# Altium footprint library Resistors SMD.PcbLib: 11 footprints
Each footprint in its own frame and in the unit in brackets; x right, y up, seen from the top. Pads: shape width x height; smd on the part's side, far side on the other; paste and mask are expansions set on the pad; w line width, h text height; cw(c..) or ccw(c..) is an arc to the next point about the centre after c.
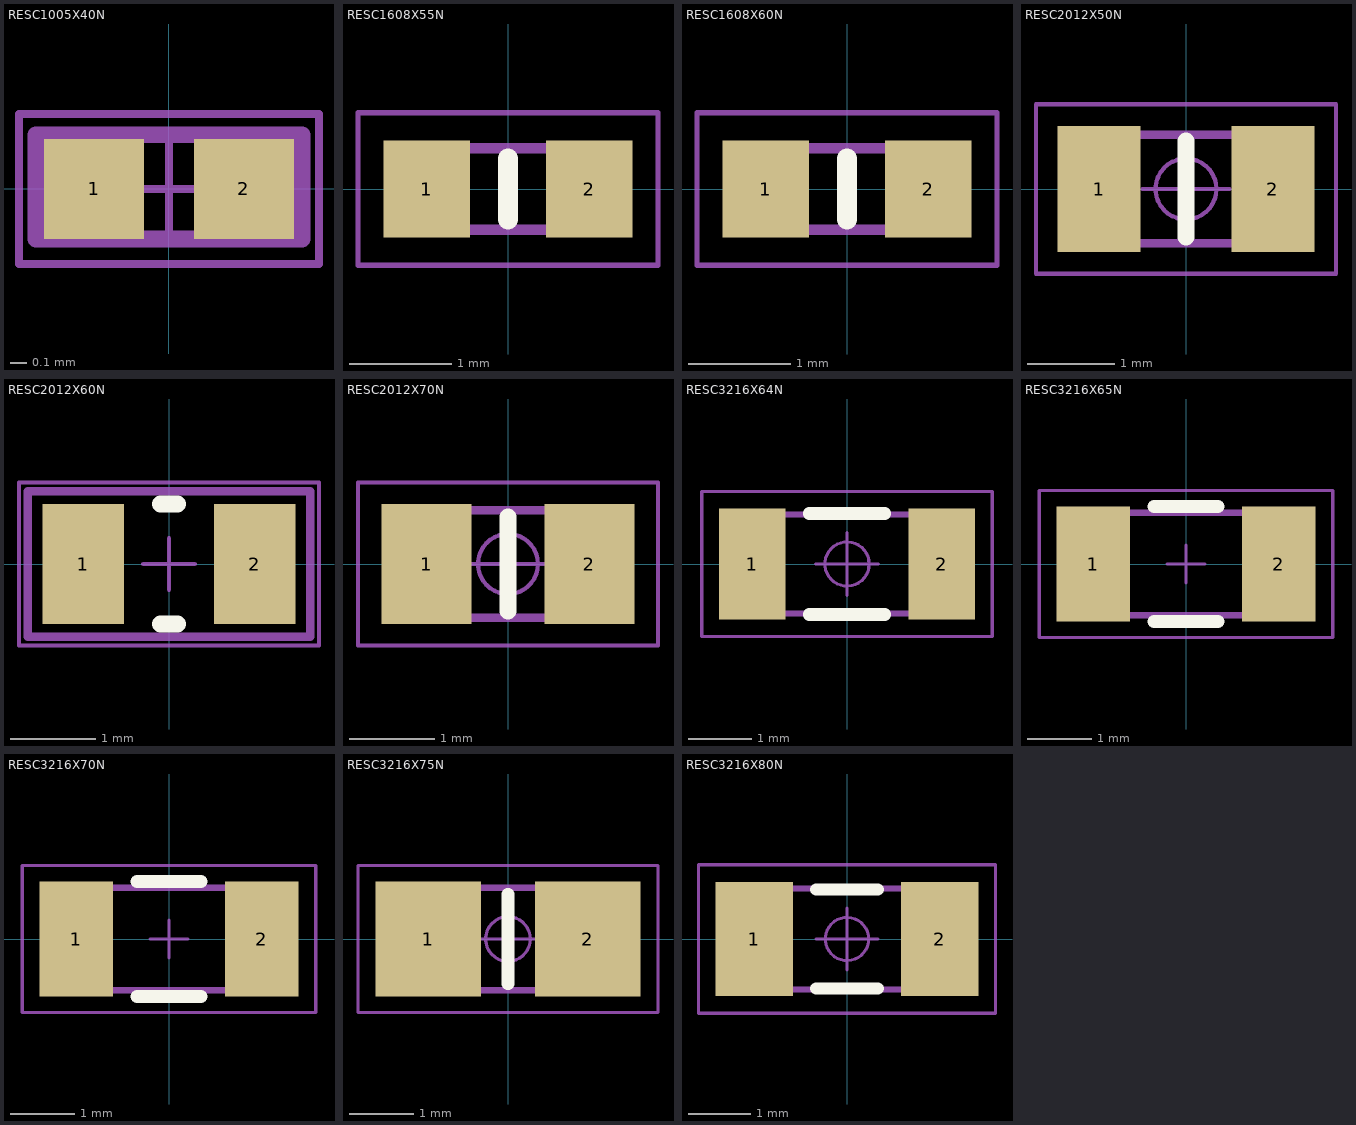
[diagram p0: the footprints below, top view; thin cyan lines are the x and y axes]

## RESC1005X40N [mm] "Chip Resistor, EIA 0402, Metric 1005, Body 1.0x0.5mm, IPC Medium Density"
height 0.4
pads (2):
  rect 0.6x0.6 smd: 1(-0.45,0) 2(0.45,0)
Mechanical 14:
  lines w0.1: -0.8,-0.3 -0.8,0.325 0.8,0.325 0.8,-0.3 -0.8,-0.3
Mechanical 15:
  lines w0.05: -0.3,0 0.3,0 ; 0,-0.3 0,0.3 ; -0.9,-0.45 -0.9,0.45 0.9,0.45 0.9,-0.45 -0.9,-0.45
3D body "RESC1005X40N.stp": height 0.4, standoff 0, extent -0.525,-0.275 0.525,0.275

## RESC1608X55N [mm]
pads (2):
  rect 0.85x0.95 smd: 1(-0.8,0) 2(0.8,0)
Top Overlay:
  lines w0.2: 0,-0.3 0,0.3
Mechanical 13:
  lines w0.1: -0.8,-0.4 0.8,-0.4 0.8,0.4 -0.8,0.4 -0.8,-0.4
Mechanical 15:
  lines w0.05: -1.475,-0.75 1.475,-0.75 1.475,0.75 -1.475,0.75 -1.475,-0.75
3D body "MCMR06X4700FTL.stp": height 0.55, standoff 0, extent -0.8,-0.4 0.8,0.4

## RESC1608X60N [mm]
pads (2):
  rect 0.85x0.95 smd: 1(-0.8,0) 2(0.8,0)
Top Overlay:
  lines w0.2: 0,-0.3 0,0.3
Mechanical 13:
  lines w0.1: -0.8,-0.4 0.8,-0.4 0.8,0.4 -0.8,0.4 -0.8,-0.4
Mechanical 15:
  lines w0.05: -1.475,-0.75 1.475,-0.75 1.475,0.75 -1.475,0.75 -1.475,-0.75
3D body "MCSR06X75R0FTL.stp": height 0.6, standoff 0, extent -0.8,-0.4 0.8,0.4

## RESC2012X50N [mm] "Chip Resistor, EIA 0805, Metric 2012, Body 2.0x1.25mm, IPC Medium Density"
height 0.5
pads (2):
  rect 0.95x1.45 smd: 1(-1,0) 2(1,0)
Top Overlay:
  lines w0.2: 0,-0.55 0,0.55
Mechanical 14:
  lines w0.1: -1.025,-0.625 -1.025,0.625 1.025,0.625 1.025,-0.625 -1.025,-0.625
Mechanical 15:
  circle w0.05: c0,0 r0.35
  lines w0.05: -0.5,0 0.5,0 ; 0,-0.5 0,0.5 ; -1.725,-0.975 -1.725,0.975 1.725,0.975 1.725,-0.975 -1.725,-0.975
3D body "RESC2012X50N.stp": height 0.5, standoff 0, extent -1.1,-0.675 1.1,0.675

## RESC2012X60N [mm] "Chip Resistor, EIA 0805, Metric 2012, Body 2.0x1.2mm, IPC Medium Density"
height 0.6
pads (2):
  rect 0.95x1.4 smd: 1(-1,0) 2(1,0)
Top Overlay:
  lines w0.2: -0.1,-0.7 0.1,-0.7 ; -0.1,0.7 0.1,0.7
Mechanical 14:
  lines w0.1: -1.65,-0.85 1.65,-0.85 1.65,0.85 -1.65,0.85 -1.65,-0.85
Mechanical 15:
  lines w0.05: -0.3,0 0.3,0 ; 0,-0.3 0,0.3 ; -1.75,-0.95 -1.75,0.95 1.75,0.95 1.75,-0.95 -1.75,-0.95
3D body "RESC2012X60N.stp": height 0.6, standoff 0, extent -1.1,-0.675 1.1,0.675

## RESC2012X70N [mm] "Chip Resistor, EIA 0805, Metric 2012, Body 2.0x1.25mm, IPC Medium Density"
height 0.7
pads (2):
  rect 1.05x1.4 smd: 1(-0.95,0) 2(0.95,0)
Top Overlay:
  lines w0.2: 0,-0.55 0,0.55
Mechanical 14:
  lines w0.1: -1,-0.625 -1,0.625 1,0.625 1,-0.625 -1,-0.625
Mechanical 15:
  circle w0.05: c0,0 r0.35
  lines w0.05: -0.5,0 0.5,0 ; 0,-0.5 0,0.5 ; -1.75,-0.95 -1.75,0.95 1.75,0.95 1.75,-0.95 -1.75,-0.95
3D body "RESC2012X70N.stp": height 0.7, standoff 0, extent -1.1,-0.675 1.1,0.675

## RESC3216X64N [mm] "Chip Resistor, EIA 1206, Metric 3216, Body 3.2x1.6mm, IPC Medium Density"
height 0.64
pads (2):
  rect 1.05x1.75 smd: 1(-1.5,0) 2(1.5,0)
Top Overlay:
  lines w0.2: -0.6,-0.8 0.6,-0.8 ; -0.6,0.8 0.6,0.8
Mechanical 14:
  lines w0.1: -1.6,-0.785 -1.6,0.785 1.6,0.785 1.6,-0.785 -1.6,-0.785
Mechanical 15:
  circle w0.05: c0,0 r0.35
  lines w0.05: -0.5,0 0.5,0 ; 0,-0.5 0,0.5 ; -2.3,-1.15 -2.3,1.15 2.3,1.15 2.3,-1.15 -2.3,-1.15
3D body "RESC3216X64N.stp": height 0.65, standoff 0, extent -1.675,-0.875 1.675,0.875

## RESC3216X65N [mm] "Chip Resistor, EIA 1206, Metric 3216, Body 3.2x1.6mm, IPC Medium Density"
height 0.65
pads (2):
  rect 1.15x1.8 smd: 1(-1.45,0) 2(1.45,0)
Top Overlay:
  lines w0.2: -0.5,-0.9 0.5,-0.9 ; -0.5,0.9 0.5,0.9
Mechanical 14:
  lines w0.1: -1.6,-0.8 1.6,-0.8 1.6,0.8 -1.6,0.8 -1.6,-0.8
Mechanical 15:
  lines w0.05: -0.3,0 0.3,0 ; 0,-0.3 0,0.3 ; -2.3,-1.15 2.3,-1.15 2.3,1.15 -2.3,1.15 -2.3,-1.15
3D body "RESC3216X65N.stp": height 0.65, standoff 0, extent -1.675,-0.875 1.675,0.875

## RESC3216X70N [mm] "Chip Resistor, EIA 1206, Metric 3216, Body 3.2x1.6mm, IPC Medium Density"
height 0.7
pads (2):
  rect 1.15x1.8 smd: 1(-1.45,0) 2(1.45,0)
Top Overlay:
  lines w0.2: -0.5,-0.9 0.5,-0.9 ; -0.5,0.9 0.5,0.9
Mechanical 14:
  lines w0.1: -1.6,-0.8 1.6,-0.8 1.6,0.8 -1.6,0.8 -1.6,-0.8
Mechanical 15:
  lines w0.05: -0.3,0 0.3,0 ; 0,-0.3 0,0.3 ; -2.3,-1.15 2.3,-1.15 2.3,1.15 -2.3,1.15 -2.3,-1.15
3D body "RESC3216X70N.stp": height 0.7, standoff 0, extent -1.7,-0.9 1.7,0.9

## RESC3216X75N [mm] "Chip Resistor, EIA 1206, Metric 3216, Body 3.2x1.6mm, IPC Medium Density"
height 0.75
pads (2):
  rect 1.65x1.8 smd: 1(-1.25,0) 2(1.25,0)
Top Overlay:
  lines w0.2: 0,-0.7 0,0.7
Mechanical 14:
  lines w0.1: -1.6,-0.8 -1.6,0.8 1.6,0.8 1.6,-0.8 -1.6,-0.8
Mechanical 15:
  circle w0.05: c0,0 r0.35
  lines w0.05: -0.5,0 0.5,0 ; 0,-0.5 0,0.5 ; -2.35,-1.15 -2.35,1.15 2.35,1.15 2.35,-1.15 -2.35,-1.15
3D body "RESC3216X75N.stp": height 0.75, standoff 0, extent -1.675,-0.875 1.675,0.875

## RESC3216X80N [mm] "Chip Resistor, EIA 1206, Metric 3216, Body 3.2x1.6mm, IPC Medium Density"
height 0.8
pads (2):
  rect 1.25x1.85 smd: 1(-1.5,0) 2(1.5,0)
Top Overlay:
  lines w0.2: -0.5,-0.8 0.5,-0.8 ; -0.5,0.8 0.5,0.8
Mechanical 14:
  lines w0.1: -1.6,-0.815 -1.6,0.815 1.6,0.815 1.6,-0.815 -1.6,-0.815
Mechanical 15:
  circle w0.05: c0,0 r0.35
  lines w0.05: -0.5,0 0.5,0 ; 0,-0.5 0,0.5 ; -2.4,-1.2 -2.4,1.2 2.4,1.2 2.4,-1.2 -2.4,-1.2
3D body "RESC3216X80N.stp": height 0.8, standoff 0, extent -1.675,-0.875 1.675,0.875